# Altium footprint library 280系列连接器.PcbLib: 1 footprints
Each footprint in its own frame and in the unit in brackets; x right, y up, seen from the top. Pads: shape width x height; smd on the part's side, far side on the other; paste and mask are expansions set on the pad; w line width, h text height; cw(c..) or ccw(c..) is an arc to the next point about the centre after c.
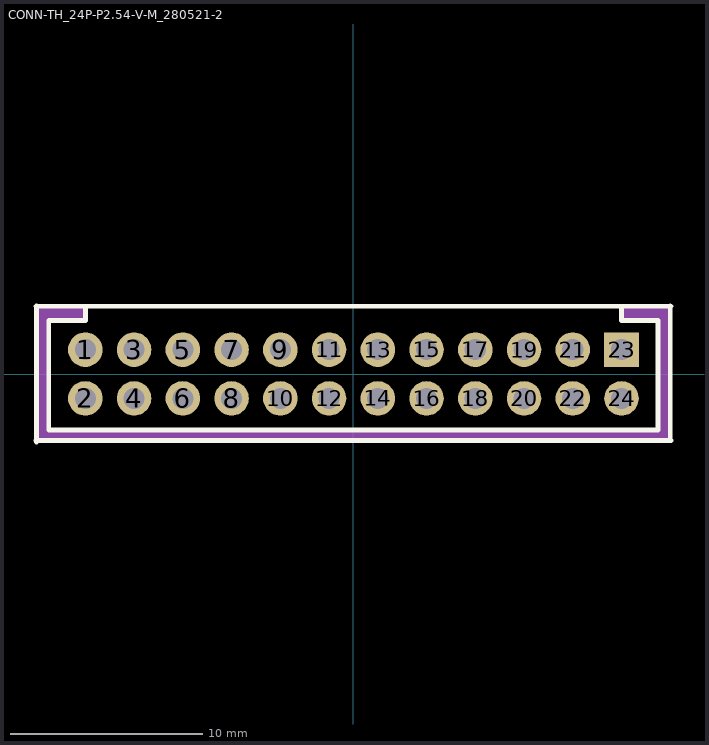
[diagram p0: the footprint, top view; thin cyan lines are the x and y axes]

## CONN-TH_24P-P2.54-V-M_280521-2 [mm]
pads (24):
  round 1.8 hole 1.1: 1(-13.97,1.27) 2(-13.97,-1.27) 3(-11.43,1.27) 4(-11.43,-1.27) 5(-8.89,1.27) 6(-8.89,-1.27) 7(-6.35,1.27) 8(-6.35,-1.27) 9(-3.81,1.27) 10(-3.81,-1.27) 11(-1.27,1.27) 12(-1.27,-1.27) 13(1.27,1.27) 14(1.27,-1.27) 15(3.81,1.27) 16(3.81,-1.27) 17(6.35,1.27) 18(6.35,-1.27) 19(8.89,1.27) 20(8.89,-1.27) 21(11.43,1.27) 22(11.43,-1.27) 24(13.97,-1.27)
  rect 1.8x1.8 hole 1.1: 23(13.97,1.27)
Top Overlay:
  lines w0.254: -16.55,-3.47 16.55,-3.47 ; -16.55,3.53 16.55,3.53 ; -16.51,-3.556 -16.51,3.556 ; -13.97,3.53 -13.97,2.794 -15.875,2.794 -15.875,-2.921 15.875,-2.921 15.875,2.794 13.97,2.794 13.97,3.53 ; 16.51,-3.302 16.51,3.556
Mechanical 6:
  region: 13.97,2.794 13.97,3.403 14.097,3.53 16.484,3.53 16.51,3.556 16.51,-3.43 16.55,-3.47 -16.469,-3.47 -16.51,-3.429 -16.51,3.556 -13.996,3.556 -13.97,3.53 -13.97,2.794 -15.875,2.794 -15.875,-2.921 15.875,-2.921 15.875,2.794
Mechanical 15:
  region: 16.55,3.56 16.525,3.56 16.49,3.525 16.49,3.475 16.525,3.44 16.55,3.44 16.575,3.44 16.61,3.475 16.61,3.525 16.575,3.56
  region: 14.29,0.95 13.65,0.95 13.65,1.59 14.29,1.59
  region: 14.29,-1.59 13.65,-1.59 13.65,-0.95 14.29,-0.95
  region: 11.75,0.95 11.11,0.95 11.11,1.59 11.75,1.59
  region: 11.75,-1.59 11.11,-1.59 11.11,-0.95 11.75,-0.95
  region: 9.21,0.95 8.57,0.95 8.57,1.59 9.21,1.59
  region: 9.21,-1.59 8.57,-1.59 8.57,-0.95 9.21,-0.95
  region: 6.67,0.95 6.03,0.95 6.03,1.59 6.67,1.59
  region: 6.67,-1.59 6.03,-1.59 6.03,-0.95 6.67,-0.95
  region: 4.13,0.95 3.49,0.95 3.49,1.59 4.13,1.59
  region: 4.13,-1.59 3.49,-1.59 3.49,-0.95 4.13,-0.95
  region: 1.59,0.95 0.95,0.95 0.95,1.59 1.59,1.59
  region: 1.59,-1.59 0.95,-1.59 0.95,-0.95 1.59,-0.95
  region: -0.95,0.95 -1.59,0.95 -1.59,1.59 -0.95,1.59
  region: -0.95,-1.59 -1.59,-1.59 -1.59,-0.95 -0.95,-0.95
  region: -3.49,0.95 -4.13,0.95 -4.13,1.59 -3.49,1.59
  region: -3.49,-1.59 -4.13,-1.59 -4.13,-0.95 -3.49,-0.95
  region: -6.03,0.95 -6.67,0.95 -6.67,1.59 -6.03,1.59
  region: -6.03,-1.59 -6.67,-1.59 -6.67,-0.95 -6.03,-0.95
  region: -8.57,0.95 -9.21,0.95 -9.21,1.59 -8.57,1.59
  region: -8.57,-1.59 -9.21,-1.59 -9.21,-0.95 -8.57,-0.95
  region: -11.11,0.95 -11.75,0.95 -11.75,1.59 -11.11,1.59
  region: -11.11,-1.59 -11.75,-1.59 -11.75,-0.95 -11.11,-0.95
  region: -13.65,0.95 -14.29,0.95 -14.29,1.59 -13.65,1.59
  region: -13.65,-1.59 -14.29,-1.59 -14.29,-0.95 -13.65,-0.95
  lines w0.051: -16.55,-3.5 16.55,-3.5 16.55,3.5 -16.55,3.5 -16.55,-3.5
3D body "U3.step": height 12.65, standoff -3.45, extent -16.55,-3.5 16.551,3.5